# Altium schematic symbol library SpaceVNX.SCHLIB: 113 symbols (part 1 of 4)
Pins are listed as number, name and electrical type; pins without a type are passive.

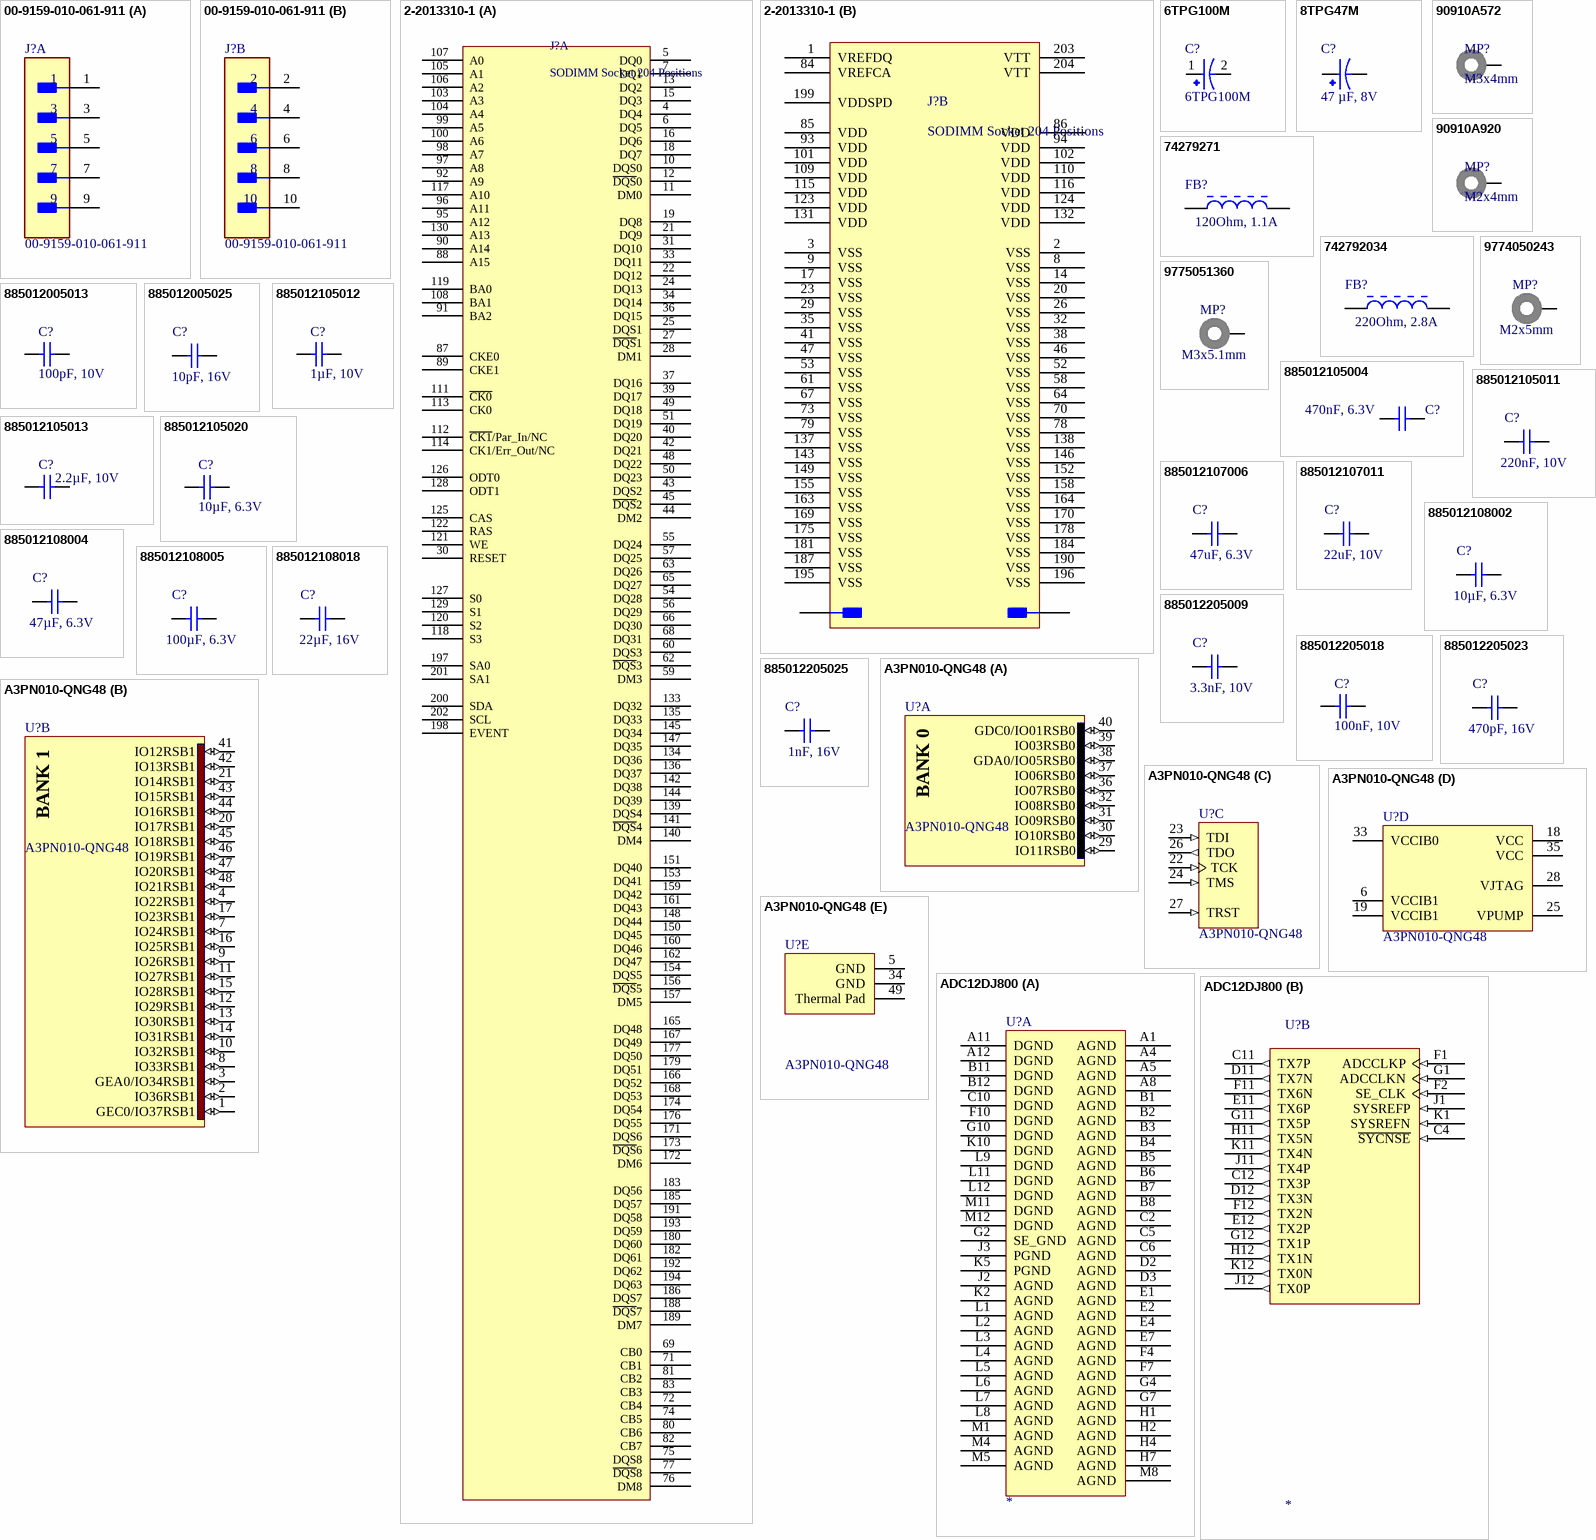
[diagram p0: symbols 00-9159-010-061-911 to ADC12DJ800]

## 00-9159-010-061-911
designator J?
Coplanar Open Ended Card Edge Connector 10 Pin; Supplier 1: Digi-Key; Supplier Part Number 1: 478-009159010061911-ND
footprint KYOCERA_00-9159-010-061-911 (Coplanar Open Ended Card Edge Connector)
part A pins: 1, 3, 5, 7, 9 (power)
part B pins: 2, 4, 6, 8, 10

## 2-2013310-1
designator J?, comment SODIMM Socket 204 Positions
Connector SODIMM Socket 204 Positions, Right Angle, DDR3/DDR3L +1.5V +1.35V; Memory Type: DDR3, DDR3L, SDRAM; Number of Positions: 204; JEDEC Standard: 204-Pin EP3-6400/EP3-8500/EP3-10600/EP3-12800 DDR3 SDRAM 72b-S0-DIMM Design Specification; Number of Rows: 2; Orientation: Right Angle; Packaging: Tape & Reel (TR); Termination: Solder; Radiation Hardening: No; Form Factor: SODIMM; ComponentLink1Description: Manufacturer; ComponentLink1URL: https://www.te.com/usa-en/product-2-2013310-1.html?te_bu=Cor&te_type=other&te_campaign=oct_glo_manufacturer&elqCampaignId=26136; ComponentLink2Description: Pinout; ComponentLink2URL: https://media-www.micron.com/-/media/client/global/documents/products/data-sheet/modules/sodimm/jtf16c256_512_1gx64hz.pdf?rev=92a9360308b84bd182ce55b117fec160; Supplier 1: RSComponents; Supplier 2: Mouser; Supplier 3: Digi-Key; Supplier Part Number 1: 9097429; Supplier Part Number 2: 571-2-2013310-1; Supplier Part Number 3: A111121CT-ND
footprint TE_DDR3_SODIMM_RA_Socket (Connector SODIMM Socket 204 POS 0.6mm Solder RA SMD Embossed)
part A pins: 4 DQ4, 5 DQ0, 6 DQ5, 7 DQ1, 10 DQS0, 11 DM0, 12 ~{DQS}0, 13 DQ2, 15 DQ3, 16 DQ6, 18 DQ7, 19 DQ8, 21 DQ9, 22 DQ12, 24 DQ13, 25 DQS1, 27 ~{DQS}1, 28 DM1, 30 RESET, 31 DQ10, 33 DQ11, 34 DQ14, 36 DQ15, 37 DQ16, 39 DQ17, 40 DQ20, 42 DQ21, 43 DQS2, 44 DM2, 45 ~{DQS}2, 48 DQ22, 49 DQ18, 50 DQ23, 51 DQ19, 54 DQ28, 55 DQ24, 56 DQ29, 57 DQ25, 59 DM3, 60 DQS3, 62 ~{DQS}3, 63 DQ26, 65 DQ27, 66 DQ30, 68 DQ31, 69 CB0, 71 CB1, 72 CB4, 74 CB5, 75 DQS8, 76 DM8, 77 ~{DQS}8, 80 CB6, 81 CB2, 82 CB7, 83 CB3, 87 CKE0, 88 A15, 89 CKE1, 90 A14, 91 BA2, 92 A9, 95 A12, 96 A11, 97 A8, 98 A7, 99 A5, 100 A6, 103 A3, 104 A4, 105 A1, 106 A2, 107 A0, 108 BA1, 111 ~{CK0}, 112 ~{CK1}/Par_In/NC, 113 CK0, 114 CK1/Err_Out/NC, 117 A10, 118 S3, 119 BA0, 120 S2, 121 WE, 122 RAS, 125 CAS, 126 ODT0, 127 S0, 128 ODT1, 129 S1, 130 A13, 133 DQ32, 134 DQ36, 135 DQ33, 136 DQ37, 139 DQS4, 140 DM4, 141 ~{DQS}4, 142 DQ38, 144 DQ39, 145 DQ34, 147 DQ35, 148 DQ44, 150 DQ45, 151 DQ40, 153 DQ41, 154 DQS5, 156 ~{DQS}5, 157 DM5, 159 DQ42, 160 DQ46, 161 DQ43, 162 DQ47, 165 DQ48, 166 DQ52, 167 DQ49, 168 DQ53, 171 DQS6, 172 DM6, 173 ~{DQS}6, 174 DQ54, 176 DQ55, 177 DQ50, 179 DQ51, 180 DQ60, 182 DQ61, 183 DQ56, 185 DQ57, 186 DQS7, 188 ~{DQS}7, 189 DM7, 191 DQ58, 192 DQ62, 193 DQ59, 194 DQ63, 197 SA0, 198 EVENT, 200 SDA, 201 SA1, 202 SCL
part B pins: 1 VREFDQ, 2 VSS, 3 VSS, 8 VSS, 9 VSS, 14 VSS, 17 VSS, 20 VSS, 23 VSS, 26 VSS, 29 VSS, 32 VSS, 35 VSS, 38 VSS, 41 VSS, 46 VSS, 47 VSS, 52 VSS, 53 VSS, 58 VSS, 61 VSS, 64 VSS, 67 VSS, 70 VSS, 73 VSS, 78 VSS, 79 VSS, 84 VREFCA, 85 VDD, 86 VDD, 93 VDD, 94 VDD, 101 VDD, 102 VDD, 109 VDD, 110 VDD, 115 VDD, 116 VDD, 123 VDD, 124 VDD, 131 VDD, 132 VDD, 137 VSS, 138 VSS, 143 VSS, 146 VSS, 149 VSS, 152 VSS, 155 VSS, 158 VSS, 163 VSS, 164 VSS, 169 VSS, 170 VSS, 175 VSS, 178 VSS, 181 VSS, 184 VSS, 187 VSS, 190 VSS, 195 VSS, 196 VSS, 199 VDDSPD, 203 VTT, 204 VTT, 205 GND, 206 GND

## 6TPG100M
designator C?
Conductive Polymer Tantalum Solid Capacitors; MF: Panasonic; Rated capacitance range (µF): 100.00; Rated voltage (DC) (V): 6.30; Package: B1G; MP: 6TPG100M; Supplier 1: Digi-Key; Supplier Part Number 1: P16238CT-ND
footprint PANASONIC_B1G
pins: 1, 2

## 8TPG47M
designator C?, comment 47 µF, 8V
Conductive Polymer Tantalum Solid Capacitors; MP: 8TPG47M; Rated capacitance range (µF): 47.00; Rated voltage (DC) (V): 8.00; MF: Panasonic; Package: B1G; Supplier 1: Digi-Key; Supplier Part Number 1: P123517DKR-ND
footprint PANASONIC_B1G
pins: 1, 2

## 90910A572
designator MP?, comment M3x4mm
Button Head Torx Screws 18-8 Stainless Steel, M3 x 0.5 mm Thread, 4 mm Long; ComponentLink1Description: Manufacturer; ComponentLink1URL: https://www.mcmaster.com/90910A572/
footprint 90910A572 (Button Head Torx Screws 18-8 Stainless Steel, M3 x 0.5 mm Thread, 4 mm Long)
pins: 1

## 90910A920
designator MP?, comment M2x4mm
Button Head Torx Screws 18-8 Stainless Steel, M2 x 0.4mm Thread, 4mm Long; ComponentLink1Description: Manufacturer; ComponentLink1URL: https://www.mcmaster.com/90910A920/
footprint 90910A572 (Button Head Torx Screws 18-8 Stainless Steel, M3 x 0.5 mm Thread, 4 mm Long)
pins: 1

## 74279271
designator FB?, comment 120Ohm, 1.1A
WE-CBF SMT EMI Suppression Ferrite Bead, size 0402, 120Ohm, 1.1A; Manufacturer Part Number: 74279271; Manufacturer: Wurth Elektronik; Impedance max.: 200Ohm; DC Resistance max.: 0.2Ohm; Type: Wide Band; ComponentLink1Description: Manufacturer; ComponentLink1URL: http://www.we-online.de; ComponentLink2Description: Datasheet; ComponentLink2URL: https://www.we-online.com/catalog/datasheet/74279271.pdf; Operating Temperature: -55 to +125degC; Packaging: Tape and Reel; Published Date: December 2021; Rated Current: 1.1A; Impedance @100MHz: 120Ohm; Mounting Technology: SMT; Size: 0402; Height: 0.5mm; Length: 1mm; Width: 0.5mm
footprint WURTH-CBF_0402 (SMD EMI Suppression Ferrite  Bead, body 1x0.5mm)
pins: 1, 2

## 742792034
designator FB?, comment 220Ohm, 2.8A
WE-CBF SMT EMI Suppression Ferrite Bead, size 0805, 220Ohm, 2.8A; Manufacturer Part Number: 742792034; Manufacturer: Wurth Elektronik; Impedance max.: 300Ohm; DC Resistance max.: 0.3Ohm; Type: High Speed; ComponentLink1Description: Manufacturer; ComponentLink1URL: http://www.we-online.de; ComponentLink2Description: Datasheet; ComponentLink2URL: https://www.we-online.com/catalog/datasheet/742792034.pdf; Operating Temperature: -55 to +125degC; Packaging: Tape and Reel; Published Date: December 2021; Rated Current: 2.8A; Impedance @100MHz: 220Ohm; Mounting Technology: SMT; Size: 0805; Height: 0.9mm; Length: 2mm; Width: 1.2mm
footprint WURTH-CBF_0805 (SMD EMI Suppression Ferrite  Bead, body 2x1.2mm)
pins: 1, 2

## 9774050243
designator MP?, comment M2x5mm
WA-SMSI SMT Steel Spacer, internal Thread, OD 4.35mm, M2x5mm; Manufacturer Part Number: 9774050243; Manufacturer: Wurth Elektronik; Inner Diameter: 2.8mm; Surface: Tin; Thread: M2; ComponentLink1Description: Manufacturer; ComponentLink1URL: http://www.we-online.de; ComponentLink2Description: Datasheet; ComponentLink2URL: https://www.we-online.com/catalog/datasheet/9774050243.pdf; Mounting Technology: SMT; Packaging: Bulk; Length: 5mm; Inner Thread Length: -; Operating Temperature: -55 to +150degC; Outer Diameter: 4.35mm; Published Date: April 2020; Material: Steel
footprint 9774050243 (SMT Steel Spacer with internal Thread M2, height 5mm)
pins: 1

## 9775051360
designator MP?, comment M3x5.1mm
WA-SMSR SMT Steel Spacer Reverse with internal Thread M3, Length 5.1mm; Manufacturer Part Number: 9775051360; Manufacturer: Wurth Elektronik; Inner Diameter: 4.2mm; Outer Diameter: 6mm; Surface: Tin; ComponentLink1Description: Manufacturer; ComponentLink1URL: http://www.we-online.de; ComponentLink2Description: Datasheet; ComponentLink2URL: https://www.we-online.com/catalog/datasheet/9775051360.pdf; Operating Temperature: -55 to +150degC; Pin Length: 5.1mm; Hole Diameter: -; Material: Steel; Packaging: Bulk; Published Date: March 2021; Mounting Technology: SMT; Thread: M3
footprint 9775051360 (SMD Steel Spacer M3 Thread Internal, Pin Length 5.1mm)
pins: 1

## 885012005013
designator C?, comment 100pF, 10V
WCAP-CSGP Multilayer Ceramic Chip Capacitor, General Purpose, size 0402, NP0, 100pF, 10V; Manufacturer Part Number: 885012005013; Manufacturer: Wurth Elektronik; Rated Voltage: 10VDC; Isolation Resistance  min.: 10GOhm; Capacitance Tolerance: +/-5%; Technical Reference: NP00402101J010DFCT10000; Q-Factor min.: 1000; ComponentLink1Description: Manufacturer; ComponentLink1URL: http://www.we-online.de; ComponentLink2Description: Datasheet; ComponentLink2URL: https://www.we-online.com/catalog/datasheet/885012005013.pdf; Operating Temperature: -55 to +125degC; Packaging: Tape and Reel; Published Date: April 2021; Ceramic Type: NP0; Dissipation Factor max.: -; Height: 0.5mm; Mounting Technology: SMT; Size: 0402; Capacitance: 100pF
footprint WURTH_WCAP-CSGP_0402 (Ceramic Capacitors, body 1x0.5mm)
pins: 1, 2

## 885012005025
designator C?, comment 10pF, 16V
WCAP-CSGP Multilayer Ceramic Chip Capacitor, General Purpose, size 0402, NP0, 10pF, 16V; Manufacturer Part Number: 885012005025; Manufacturer: Wurth Elektronik; Rated Voltage: 16VDC; Isolation Resistance  min.: 10GOhm; Capacitance Tolerance: +/-5%; Technical Reference: NP00402100J016DFCT10000; Q-Factor min.: 400+20C; ComponentLink1Description: Manufacturer; ComponentLink1URL: http://www.we-online.de; ComponentLink2Description: Datasheet; ComponentLink2URL: https://www.we-online.com/catalog/datasheet/885012005025.pdf; Operating Temperature: -55 to +125degC; Packaging: Tape and Reel; Published Date: April 2021; Ceramic Type: NP0; Dissipation Factor max.: -; Height: 0.5mm; Mounting Technology: SMT; Size: 0402; Capacitance: 10pF
footprint WURTH_WCAP-CSGP_0402 (Ceramic Capacitors, body 1x0.5mm)
pins: 1, 2

## 885012105004
designator C?, comment 470nF, 6.3V
WCAP-CSGP Multilayer Ceramic Chip Capacitor, General Purpose, size 0402, X5R, 470nF, 6.3V; Manufacturer Part Number: 885012105004; Manufacturer: Wurth Elektronik; Rated Voltage: 6.3VDC; Isolation Resistance  min.: 0.2GOhm; Capacitance Tolerance: +/-20%; Dissipation Factor max.: 10%; Technical Reference: X5R0402474M6R3DFCT10000; ComponentLink1Description: Manufacturer; ComponentLink1URL: http://www.we-online.de; ComponentLink2Description: Datasheet; ComponentLink2URL: https://www.we-online.com/catalog/datasheet/885012105004.pdf; Operating Temperature: -55 to +85degC; Packaging: Tape and Reel; Published Date: April 2021; Ceramic Type: X5R; Height: 0.5mm; Mounting Technology: SMT; Size: 0402; Capacitance: 470nF; Supplier 1: Digi-Key; Supplier 2: Mouser; Supplier Part Number 1: 732-7481-1-ND; Supplier Part Number 2: 710-885012105004
footprint WURTH_WCAP-CSGP_0402 (Ceramic Capacitors, body 1x0.5mm)
pins: 1, 2

## 885012105011
designator C?, comment 220nF, 10V
WCAP-CSGP Multilayer Ceramic Chip Capacitor, General Purpose, size 0402, X5R, 220nF, 10V; Manufacturer Part Number: 885012105011; Manufacturer: Wurth Elektronik; Rated Voltage: 10VDC; Isolation Resistance  min.: 2.3GOhm; Capacitance Tolerance: +/-20%; Dissipation Factor max.: 5%; Technical Reference: X5R0402224M010DFCT10000; ComponentLink1Description: Manufacturer; ComponentLink1URL: http://www.we-online.de; ComponentLink2Description: Datasheet; ComponentLink2URL: https://www.we-online.com/catalog/datasheet/885012105011.pdf; Operating Temperature: -55 to +85degC; Packaging: Tape and Reel; Published Date: April 2021; Ceramic Type: X5R; Height: 0.5mm; Mounting Technology: SMT; Size: 0402; Capacitance: 220nF; Q-Factor min.: -
footprint WURTH_WCAP-CSGP_0402 (Ceramic Capacitors, body 1x0.5mm)
pins: 1, 2

## 885012105012
designator C?, comment 1µF, 10V
WCAP-CSGP Multilayer Ceramic Chip Capacitor, General Purpose, size 0402, X5R, 1uF, 10V; Manufacturer Part Number: 885012105012; Manufacturer: Wurth Elektronik; Rated Voltage: 10VDC; Isolation Resistance  min.: 0.05GOhm; Capacitance Tolerance: +/-20%; Dissipation Factor max.: 15%; Technical Reference: X5R0402105M010DFCT10000; ComponentLink1Description: Manufacturer; ComponentLink1URL: http://www.we-online.de; ComponentLink2Description: Datasheet; ComponentLink2URL: https://www.we-online.com/catalog/datasheet/885012105012.pdf; Operating Temperature: -55 to +85degC; Packaging: Tape and Reel; Published Date: April 2021; Ceramic Type: X5R; Height: 0.5mm; Mounting Technology: SMT; Size: 0402; Capacitance: 1uF; Q-Factor min.: -; Supplier 1: Digi-Key; Supplier 2: Mouser; Supplier Part Number 2: 710-885012105012; Supplier Part Number 1: 732-7489-1-ND
footprint WURTH_WCAP-CSGP_0402 (Ceramic Capacitors, body 1x0.5mm)
pins: 1, 2

## 885012105013
designator C?, comment 2.2µF, 10V
WCAP-CSGP Multilayer Ceramic Chip Capacitor, General Purpose, size 0402, X5R, 2.2uF, 10V; Manufacturer Part Number: 885012105013; Manufacturer: Wurth Elektronik; Rated Voltage: 10VDC; Isolation Resistance  min.: 0.05GOhm; Capacitance Tolerance: +/-20%; Dissipation Factor max.: 10%; Technical Reference: X5R0402225M010DFCT10000; ComponentLink1Description: Manufacturer; ComponentLink1URL: http://www.we-online.de; ComponentLink2Description: Datasheet; ComponentLink2URL: https://www.we-online.com/catalog/datasheet/885012105013.pdf; Operating Temperature: -55 to +85degC; Packaging: Tape and Reel; Published Date: April 2021; Ceramic Type: X5R; Height: 0.5mm; Mounting Technology: SMT; Size: 0402; Capacitance: 2.2uF; Q-Factor min.: -
footprint WURTH_WCAP-CSGP_0402 (Ceramic Capacitors, body 1x0.5mm)
pins: 1, 2

## 885012105020
designator C?, comment 10µF, 6.3V
WCAP-CSGP Multilayer Ceramic Chip Capacitor, General Purpose, size 0402, X5R, 10uF, 6.3V; Manufacturer Part Number: 885012105020; Manufacturer: Wurth Elektronik; Rated Voltage: 6.3VDC; Isolation Resistance  min.: 0.01GOhm; Capacitance Tolerance: +/20%; Dissipation Factor max.: 10%; Technical Reference: X5R0402106M6R3DFCT10000; ComponentLink1Description: Manufacturer; ComponentLink1URL: http://www.we-online.de; ComponentLink2Description: Datasheet; ComponentLink2URL: https://www.we-online.com/catalog/datasheet/885012105020.pdf; Operating Temperature: -55 to +85degC; Packaging: Tape and Reel; Published Date: April 2021; Ceramic Type: X5R; Height: 0.5mm; Mounting Technology: SMT; Size: 0402; Capacitance: 10uF; Q-Factor min.: -
footprint WURTH_WCAP-CSGP_0402 (Ceramic Capacitors, body 1x0.5mm)
pins: 1, 2

## 885012107006
designator C?, comment 47uF, 6.3V
WCAP-CSGP Multilayer Ceramic Chip Capacitor, General Purpose, size 0805, X5R, 47uF, 6.3V; Manufacturer Part Number: 885012107006; Manufacturer: Wurth Elektronik; Rated Voltage: 6.3VDC; Isolation Resistance  min.: 0.002GOhm; Capacitance Tolerance: +/-20%; Dissipation Factor max.: 10%; Technical Reference: X5R0805476M6R3DFCT10000; ComponentLink1Description: Manufacturer; ComponentLink1URL: http://www.we-online.de; ComponentLink2Description: Datasheet; ComponentLink2URL: https://www.we-online.com/catalog/datasheet/885012107006.pdf; Operating Temperature: -55 to +85degC; Packaging: Tape and Reel; Published Date: April 2021; Ceramic Type: X5R; Height: 1.25mm; Mounting Technology: SMT; Size: 0805; Capacitance: 47uF; Q-Factor min.: -
footprint WURTH_WCAP-CSGP_0805_H=1.25mm (Ceramic Capacitors, body 2x1.25mm)
pins: 1, 2

## 885012107011
designator C?, comment 22uF, 10V
WCAP-CSGP Multilayer Ceramic Chip Capacitor, General Purpose, size 0805, X5R, 22uF, 10V; Manufacturer Part Number: 885012107011; Manufacturer: Wurth Elektronik; Rated Voltage: 10VDC; Isolation Resistance  min.: 0.005GOhm; Capacitance Tolerance: +/-20%; Dissipation Factor max.: 10%; Technical Reference: X5R0805226M010DFCT10000; ComponentLink1Description: Manufacturer; ComponentLink1URL: http://www.we-online.de; ComponentLink2Description: Datasheet; ComponentLink2URL: https://www.we-online.com/catalog/datasheet/885012107011.pdf; Operating Temperature: -55 to +85degC; Packaging: Tape and Reel; Published Date: April 2021; Ceramic Type: X5R; Height: 1.25mm; Mounting Technology: SMT; Size: 0805; Capacitance: 22uF; Q-Factor min.: -
footprint WURTH_WCAP-CSGP_0805_H=1.25mm (Ceramic Capacitors, body 2x1.25mm)
pins: 1, 2

## 885012108002
designator C?, comment 10µF, 6.3V
WCAP-CSGP Multilayer Ceramic Chip Capacitor, General Purpose, size 1206, X5R, 10uF, 6.3V; Manufacturer Part Number: 885012108002; Manufacturer: Wurth Elektronik; Rated Voltage: 6.3VDC; Isolation Resistance  min.: 0.005GOhm; Capacitance Tolerance: +/-20%; Dissipation Factor max.: 10%; Technical Reference: X5R1206106M6R3DFCT10000; ComponentLink1Description: Manufacturer; ComponentLink1URL: http://www.we-online.de; ComponentLink2Description: Datasheet; ComponentLink2URL: https://www.we-online.com/catalog/datasheet/885012108002.pdf; Operating Temperature: -55 to +85degC; Packaging: Tape and Reel; Published Date: April 2021; Ceramic Type: X5R; Height: 1.6mm; Mounting Technology: SMT; Size: 1206; Capacitance: 10uF; Q-Factor min.: -
footprint WURTH_WCAP-CSGP_1206_H=1.6mm (Ceramic Capacitors, body 3.2x1.6mm)
pins: 1, 2

## 885012108004
designator C?, comment 47µF, 6.3V
WCAP-CSGP Multilayer Ceramic Chip Capacitor, General Purpose, size 1206, X5R, 47uF, 6.3V; Manufacturer Part Number: 885012108004; Manufacturer: Wurth Elektronik; Rated Voltage: 6.3VDC; Isolation Resistance  min.: 0.002GOhm; Capacitance Tolerance: +/-20%; Dissipation Factor max.: 10%; Technical Reference: X5R1206476M6R3DFCT10000; ComponentLink1Description: Manufacturer; ComponentLink1URL: http://www.we-online.de; ComponentLink2Description: Datasheet; ComponentLink2URL: https://www.we-online.com/catalog/datasheet/885012108004.pdf; Operating Temperature: -55 to +85degC; Packaging: Tape and Reel; Published Date: April 2021; Ceramic Type: X5R; Height: 1.6mm; Mounting Technology: SMT; Size: 1206; Capacitance: 47uF; Q-Factor min.: -
footprint WURTH_WCAP-CSGP_1206_H=1.6mm (Ceramic Capacitors, body 3.2x1.6mm)
pins: 1, 2

## 885012108005
designator C?, comment 100µF, 6.3V
WCAP-CSGP Multilayer Ceramic Chip Capacitor, General Purpose, size 1206, X5R, 100uF, 6.3V; Manufacturer Part Number: 885012108005; Manufacturer: Wurth Elektronik; Rated Voltage: 6.3VDC; Isolation Resistance  min.: 0.001GOhm; Capacitance Tolerance: +/-20%; Dissipation Factor max.: 10%; Technical Reference: X5R1206107M6R3DFCT10000; ComponentLink1Description: Manufacturer; ComponentLink1URL: http://www.we-online.de; ComponentLink2Description: Datasheet; ComponentLink2URL: https://www.we-online.com/catalog/datasheet/885012108005.pdf; Operating Temperature: -55 to +85degC; Packaging: Tape and Reel; Published Date: April 2021; Ceramic Type: X5R; Height: 1.6mm; Mounting Technology: SMT; Size: 1206; Capacitance: 100uF; Q-Factor min.: -
footprint WURTH_WCAP-CSGP_1206_H=1.6mm (Ceramic Capacitors, body 3.2x1.6mm)
pins: 1, 2

## 885012108018
designator C?, comment 22µF, 16V
WCAP-CSGP Multilayer Ceramic Chip Capacitor, General Purpose, size 1206, X5R, 22uF, 16V; Manufacturer Part Number: 885012108018; Manufacturer: Wurth Elektronik; Rated Voltage: 16VDC; Isolation Resistance  min.: 0.005GOhm; Capacitance Tolerance: +/-20%; Dissipation Factor max.: 10%; Technical Reference: X5R1206226M016DFCT10000; ComponentLink1Description: Manufacturer; ComponentLink1URL: http://www.we-online.de; ComponentLink2Description: Datasheet; ComponentLink2URL: https://www.we-online.com/catalog/datasheet/885012108018.pdf; Operating Temperature: -55 to +85degC; Packaging: Tape and Reel; Published Date: April 2021; Ceramic Type: X5R; Height: 1.6mm; Mounting Technology: SMT; Size: 1206; Capacitance: 22uF; Q-Factor min.: -
footprint WURTH_WCAP-CSGP_1206_H=1.6mm (Ceramic Capacitors, body 3.2x1.6mm)
pins: 1, 2

## 885012205009
designator C?, comment 3.3nF, 10V
WCAP-CSGP Multilayer Ceramic Chip Capacitor, General Purpose, size 0402, X7R, 3.3nF, 10V; Manufacturer Part Number: 885012205009; Manufacturer: Wurth Elektronik; Rated Voltage: 10VDC; Isolation Resistance  min.: 10GOhm; Capacitance Tolerance: +/-10%; Dissipation Factor max.: 5%; Technical Reference: X7R0402332K010DFCT10000; ComponentLink1Description: Manufacturer; ComponentLink1URL: http://www.we-online.de; ComponentLink2Description: Datasheet; ComponentLink2URL: https://www.we-online.com/catalog/datasheet/885012205009.pdf; Operating Temperature: -55 to +125degC; Packaging: Tape and Reel; Published Date: April 2021; Ceramic Type: X7R; Height: 0.5mm; Mounting Technology: SMT; Size: 0402; Capacitance: 3.3nF; Q-Factor min.: -
footprint WURTH_WCAP-CSGP_0402 (Ceramic Capacitors, body 1x0.5mm)
pins: 1, 2

## 885012205018
designator C?, comment 100nF, 10V
WCAP-CSGP Multilayer Ceramic Chip Capacitor, General Purpose, size 0402, X7R, 100nF, 10V; Manufacturer Part Number: 885012205018; Manufacturer: Wurth Elektronik; Rated Voltage: 10VDC; Isolation Resistance  min.: 5GOhm; Capacitance Tolerance: +/-10%; Dissipation Factor max.: 5%; Technical Reference: X7R0402104K010DFCT10000; ComponentLink1Description: Manufacturer; ComponentLink1URL: http://www.we-online.de; ComponentLink2Description: Datasheet; ComponentLink2URL: https://www.we-online.com/catalog/datasheet/885012205018.pdf; Operating Temperature: -55 to +125degC; Packaging: Tape and Reel; Published Date: April 2021; Ceramic Type: X7R; Height: 0.5mm; Mounting Technology: SMT; Size: 0402; Capacitance: 100nF; Q-Factor min.: -
footprint WURTH_WCAP-CSGP_0402 (Ceramic Capacitors, body 1x0.5mm)
pins: 1, 2

## 885012205023
designator C?, comment 470pF, 16V
WCAP-CSGP Multilayer Ceramic Chip Capacitor, General Purpose, size 0402, X7R, 470pF, 16V; Manufacturer Part Number: 885012205023; Manufacturer: Wurth Elektronik; Rated Voltage: 16VDC; Isolation Resistance  min.: 10GOhm; Capacitance Tolerance: +/-10%; Dissipation Factor max.: 3.5%; Technical Reference: X7R0402471K016DFCT10000; ComponentLink1Description: Manufacturer; ComponentLink1URL: http://www.we-online.de; ComponentLink2Description: Datasheet; ComponentLink2URL: https://www.we-online.com/catalog/datasheet/885012205023.pdf; Operating Temperature: -55 to +125degC; Packaging: Tape and Reel; Published Date: April 2021; Ceramic Type: X7R; Height: 0.5mm; Mounting Technology: SMT; Size: 0402; Capacitance: 470pF; Q-Factor min.: -
footprint WURTH_WCAP-CSGP_0402 (Ceramic Capacitors, body 1x0.5mm)
pins: 1, 2

## 885012205025
designator C?, comment 1nF, 16V
WCAP-CSGP Multilayer Ceramic Chip Capacitor, General Purpose, size 0402, X7R, 1nF, 16V; Manufacturer Part Number: 885012205025; Manufacturer: Wurth Elektronik; Rated Voltage: 16VDC; Isolation Resistance  min.: 10GOhm; Capacitance Tolerance: +/-10%; Dissipation Factor max.: 3.5%; Technical Reference: X7R0402102K016DFCT10000; ComponentLink1Description: Manufacturer; ComponentLink1URL: http://www.we-online.de; ComponentLink2Description: Datasheet; ComponentLink2URL: https://www.we-online.com/catalog/datasheet/885012205025.pdf; Operating Temperature: -55 to +125degC; Packaging: Tape and Reel; Published Date: April 2021; Ceramic Type: X7R; Height: 0.5mm; Mounting Technology: SMT; Size: 0402; Capacitance: 1nF; Q-Factor min.: -
footprint WURTH_WCAP-CSGP_0402 (Ceramic Capacitors, body 1x0.5mm)
pins: 1, 2

## A3PN010-QNG48
designator U?
ProASIC3 nano Flash FPGA, 34 User IOs, 10K System Gates, Standard Speed, 48-Pin QFP, Pb-Free, Commerical Grade; System Gates: 100.000; Equivalent LEs: 100; FlashROM Bits: 1024; Maximum User I/Os: 34; ComponentLink1Description: Manufacturer; ComponentLink1URL: https://www.microsemi.com/product-directory/fpgas/1690-proasic3#proasic3-nano; Supplier 1: Digi-Key; Supplier Part Number 1: 1100-1258-ND; Package: QNG48
footprint Actel_QN48 (QFN, 48-Leads, Body 6x6mm, Pitch 0.4mm, Thermal Pad 4.8x4.8mm, IPC Medium Density)
part A pins: 29 IO11RSB0 (io), 30 IO10RSB0 (io), 31 IO09RSB0 (io), 32 IO08RSB0 (io), 36 IO07RSB0 (io), 37 IO06RSB0 (io), 38 GDA0/IO05RSB0 (io), 39 IO03RSB0 (io), 40 GDC0/IO01RSB0 (io)
part B pins: 1 GEC0/IO37RSB1 (io), 2 IO36RSB1 (io), 3 GEA0/IO34RSB1 (io), 4 IO22RSB1 (io), 7 IO24RSB1 (io), 8 IO33RSB1 (io), 9 IO26RSB1 (io), 10 IO32RSB1 (io), 11 IO27RSB1 (io), 12 IO29RSB1 (io), 13 IO30RSB1 (io), 14 IO31RSB1 (io), 15 IO28RSB1 (io), 16 IO25RSB1 (io), 17 IO23RSB1 (io), 20 IO17RSB1 (io), 21 IO14RSB1 (io), 41 IO12RSB1 (io), 42 IO13RSB1 (io), 43 IO15RSB1 (io), 44 IO16RSB1 (io), 45 IO18RSB1 (io), 46 IO19RSB1 (io), 47 IO20RSB1 (io), 48 IO21RSB1 (io)
part C pins: 22 TCK (in), 23 TDI (in), 24 TMS (in), 26 TDO (out), 27 TRST (in)
part D pins: 6 VCCIB1 (power), 18 VCC (power), 19 VCCIB1 (power), 25 VPUMP (power), 28 VJTAG (power), 33 VCCIB0 (power), 35 VCC (power)
part E pins: 5 GND (power), 34 GND (power), 49 Thermal Pad (power)
part A text: BANK 0
part B text: BANK 1

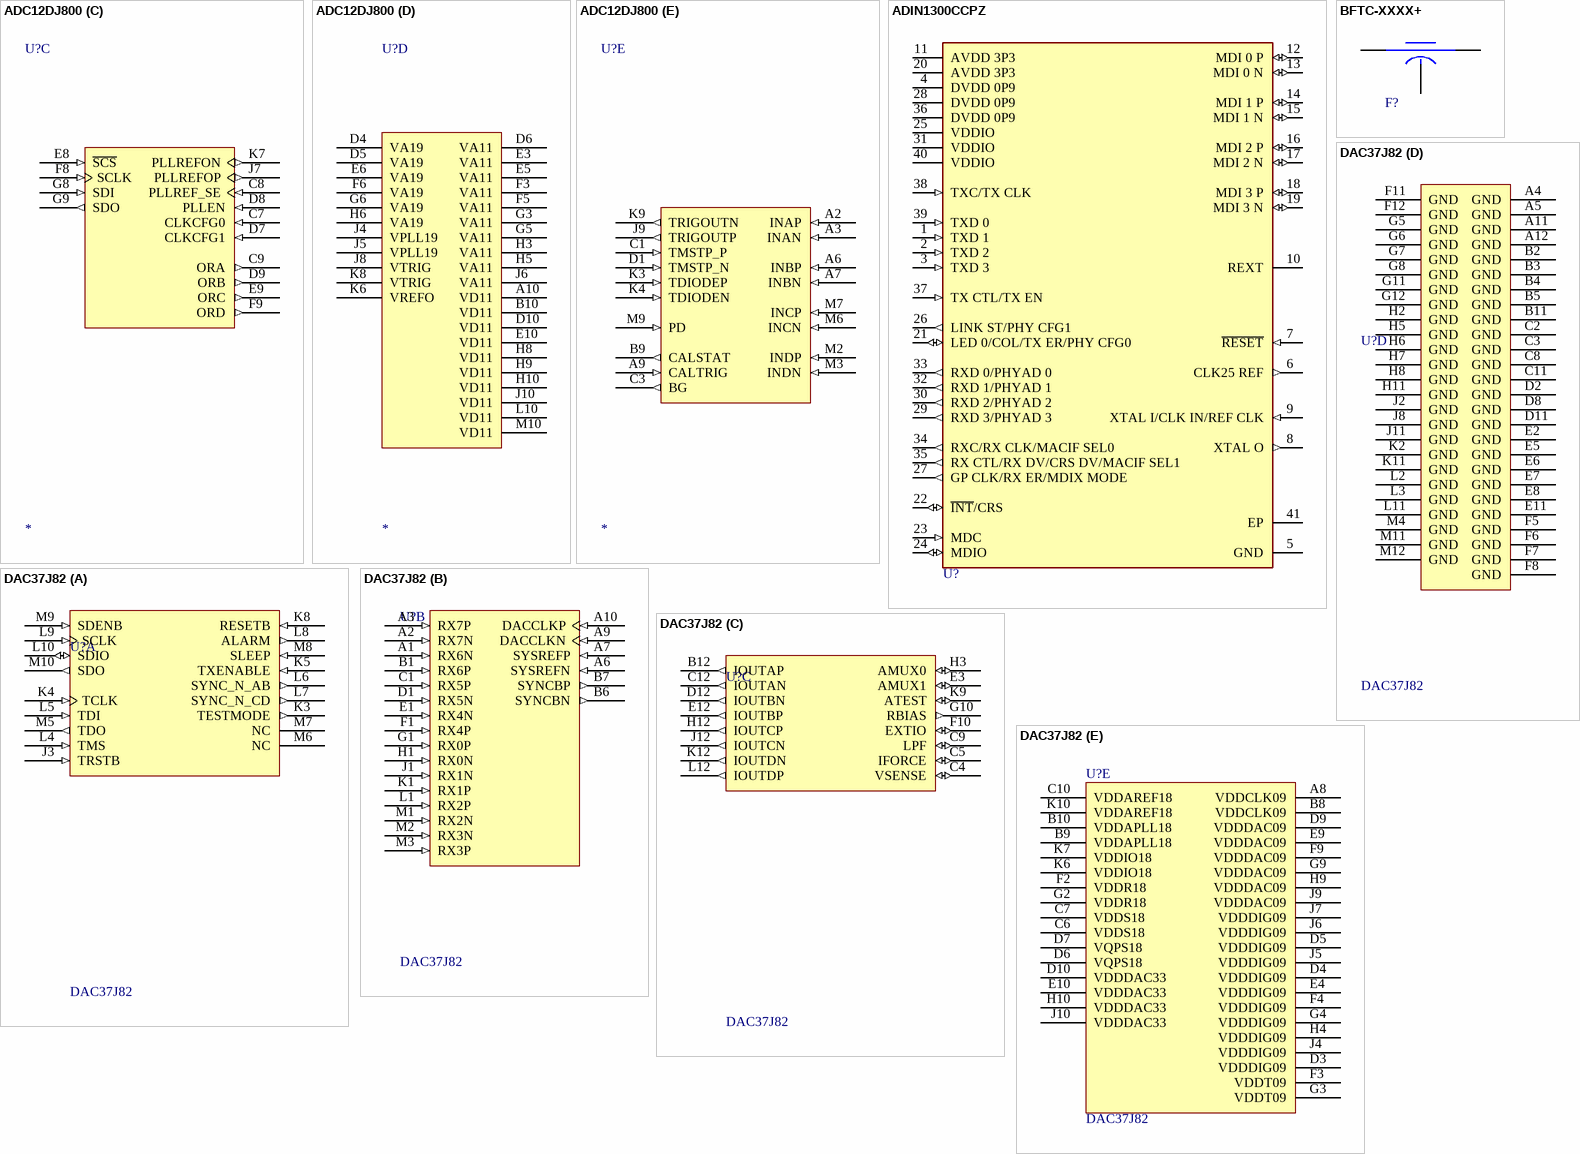
[diagram p1: symbols ADC12DJ800 to DAC37J82]

## ADC12DJ800
designator U?
Dual-Channel, 12-bit, 800-MSPS Analog-to-Digital Converter with JESD204C interface.; Resolution (Bits): 12; Number of ADC channels (#): 2; Sample rate (Max) (MSPS): 800; Rating: Automotive; Interface type: JESD204B, JESD204C; Analog input BW (MHz): 6000; Architecture: Folding Interpolating; SNR (dB): 57.6; Power consumption (Typ) (mW): 1110; Operating temperature range (ºC): -40ºC to 125ºC; ComponentLink1Description: Manufacturer; ComponentLink1URL: https://www.ti.com/product/ADC12DJ800-Q1; Supplier 1: Mouser; Supplier 2: Digi-Key; Supplier Part Number 1: 595-ADC12DJ2700AAV; Supplier Part Number 2: 296-48320-ND
footprint TEXAS_FCBGA144 (AAV)
part A pins: A1 AGND, A4 AGND, A5 AGND, A8 AGND, A11 DGND, A12 DGND, B1 AGND, B2 AGND, B3 AGND, B4 AGND, B5 AGND, B6 AGND, B7 AGND, B8 AGND, B11 DGND, B12 DGND, C2 AGND, C5 AGND, C6 AGND, C10 DGND, D2 AGND, D3 AGND, E1 AGND, E2 AGND, E4 AGND, E7 AGND, F4 AGND, F7 AGND, F10 DGND, G2 SE_GND, G4 AGND, G7 AGND, G10 DGND, H1 AGND, H2 AGND, H4 AGND, H7 AGND, J2 AGND, J3 PGND, K2 AGND, K5 PGND, K10 DGND, L1 AGND, L2 AGND, L3 AGND, L4 AGND, L5 AGND, L6 AGND, L7 AGND, L8 AGND, L9 DGND, L11 DGND, L12 DGND, M1 AGND, M4 AGND, M5 AGND, M8 AGND, M11 DGND, M12 DGND
part B pins: C4 ~{SYCNSE} (in), C11 TX7P (out), C12 TX3P (out), D11 TX7N (out), D12 TX3N (out), E11 TX6P (out), E12 TX2P (out), F1 ADCCLKP (in), F2 SE_CLK (in), F11 TX6N (out), F12 TX2N (out), G1 ADCCLKN (in), G11 TX5P (out), G12 TX1P (out), H11 TX5N (out), H12 TX1N (out), J1 SYSREFP (in), J11 TX4P (out), J12 TX0P (out), K1 SYSREFN (in), K11 TX4N (out), K12 TX0N (out)
part C pins: C7 CLKCFG0 (in), C8 PLLREF_SE (in), C9 ORA (out), D7 CLKCFG1 (in), D8 PLLEN (in), D9 ORB (out), E8 ~{SCS} (in), E9 ORC (out), F8 SCLK (in), F9 ORD (out), G8 SDI (in), G9 SDO (out), J7 PLLREFOP (out), K7 PLLREFON (out)
part D pins: A10 VD11, B10 VD11, D4 VA19, D5 VA19, D6 VA11, D10 VD11, E3 VA11, E5 VA11, E6 VA19, E10 VD11, F3 VA11, F5 VA11, F6 VA19, G3 VA11, G5 VA11, G6 VA19, H3 VA11, H5 VA11, H6 VA19, H8 VD11, H9 VD11, H10 VD11, J4 VPLL19, J5 VPLL19, J6 VA11, J8 VTRIG, J10 VD11, K6 VREFO, K8 VTRIG, L10 VD11, M10 VD11
part E pins: A2 INAP (in), A3 INAN (in), A6 INBP (in), A7 INBN (in), A9 CALTRIG (in), B9 CALSTAT (out), C1 TMSTP_P (in), C3 BG (out), D1 TMSTP_N (in), J9 TRIGOUTP (out), K3 TDIODEP (in), K4 TDIODEN (in), K9 TRIGOUTN (out), M2 INDP (in), M3 INDN (in), M6 INCN (in), M7 INCP (in), M9 PD (in)

## ADIN1300CCPZ
designator U?  (value not drawn)
Robust, Industrial, Low Latency and Low Power 10 Mbps, 100 Mbps, and 1 Gbps Ethernet PHY; MAC Interface: MII, RMII, RGMII; Package: 40-lead, 6 mm × 6 mm LFCSP; Operating Temperature: −40°C to +105°C; ComponentLink1Description: Manufacturer; ComponentLink1URL: https://www.analog.com/en/products/adin1300.html#product-tools; ComponentLink2Description: Application Note; ComponentLink2URL: https://wiki.analog.com/resources/eval/user-guides/adin1300-and-adin1200/cap-coupling#:~:text=The%20ADIN1300%20and%20ADIN1200%20are,10%2F100%20Mbps%20Ethernet%20speeds.; Supplier 1: Digi-Key; Supplier 2: Mouser; Supplier Part Number 2: 584-ADIN1300CCPZ; Supplier Part Number 1: 505-ADIN1300CCPZ-ND
footprint ADI_LFCSP40 (CP-40-26, 6X6mm Body)
pins: 1 TXD 1 (in), 2 TXD 2 (in), 3 TXD 3 (in), 4 DVDD 0P9 (power), 5 GND (power), 6 CLK25 REF (out), 7 ~{RESET} (in), 8 XTAL O (out), 9 XTAL I/CLK IN/REF CLK (in), 10 REXT, 11 AVDD 3P3 (power), 12 MDI 0 P (io), 13 MDI 0 N (io), 14 MDI 1 P (io), 15 MDI 1 N (io), 16 MDI 2 P (io), 17 MDI 2 N (io), 18 MDI 3 P (io), 19 MDI 3 N (io), 20 AVDD 3P3 (power), 21 LED 0/COL/TX ER/PHY CFG0 (io), 22 ~{INT}/CRS (io), 23 MDC (in), 24 MDIO (io), 25 VDDIO (power), 26 LINK ST/PHY CFG1 (out), 27 GP CLK/RX ER/MDIX MODE (out), 28 DVDD 0P9 (power), 29 RXD 3/PHYAD 3 (out), 30 RXD 2/PHYAD 2 (out), 31 VDDIO (power), 32 RXD 1/PHYAD 1 (out), 33 RXD 0/PHYAD 0 (out), 34 RXC/RX CLK/MACIF SEL0 (out), 35 RX CTL/RX DV/CRS DV/MACIF SEL1 (out), 36 DVDD 0P9 (power), 37 TX CTL/TX EN (in), 38 TXC/TX CLK (in), 39 TXD 0 (in), 40 VDDIO (power), 41 EP (power)

## BFTC-XXXX+
designator F?  (value not drawn)
Band Pass RF Filter; Manufacturer: Mini-Circuits; Case Style: FV1206; Rejection (dB): 20; Impedance: 50Ω; Body Size: 3.2mm x 1.6mm; Technology: LTCC; ComponentLink1Description: Manufacturer; ComponentLink1URL: https://www.minicircuits.com/WebStore/RF-Filters.html; Supplier 1: Mouser; Supplier 2: Digi-Key; Supplier Part Number 1: 139-BFCN-1860; Supplier Part Number 2: 3157-BFCN-1860+CT-ND; ComponentLink2Description: Case Style; ComponentLink2URL: https://www.minicircuits.com/case_style/FV1206.pdf; ComponentLink3Description: Sugested Mounting Configuration; ComponentLink3URL: https://www.minicircuits.com/pcb/98-pl137.pdf
footprint Mini-Circuits_FV1206 (3.2 X 1.6 mm Ceramic Body, 0.94 mm Height)
pins: 1 Input, 2 GND, 3 Output

## DAC37J82
designator U?
Dual-Channel, 16-Bit, 1.6/2.5 GSPS, Digital-to-Analog Converter with 12.5 Gbps JESD204B Interface.; Resolution (Bits): 16; Number of DAC channels (#): 2; Sample/update rate (MSPS): 1600; Rating: Catalog; Interpolation: 16x, 1x, 2x, 4x, 8x; Power consumption (Typ) (mW): 789; SFDR (dB): 81; Architecture: Current Source; Reference type: Internal; Interface type: JESD204B; Operating temperature range (ºC): -40ºC to 85ºC; ComponentLink1Description: Manufacturer; ComponentLink1URL: https://www.ti.com/product/DAC37J82?utm_source=google&utm_medium=cpc&utm_campaign=asc-null-null-GPN_EN-cpc-pf-google-wwe&utm_content=DAC37J82&ds_k=DAC37J82&DCM=yes&gclid=Cj0KCQjwgYSTBhDKARIsAB8Kukuy5g6TyeX5f3mFZCn5sLi-sPSUjPmCm8keN_PwoqNiLrqoEt2qAw0aArvDEALw_wcB&gclsrc=aw.ds#pps; Supplier 1: Mouser; Supplier 2: Digi-Key; Supplier Part Number 1: 595-DAC37J82IAAV; Supplier Part Number 2: 296-43411-ND
footprint TEXAS_FCBGA144 (AAV)
part A pins: J3 TRSTB (in), K3 TESTMODE (out), K4 TCLK (in), K5 TXENABLE (in), K8 RESETB (in), L4 TMS (in), L5 TDI (in), L6 SYNC_N_AB (out), L7 SYNC_N_CD (out), L8 ALARM (out), L9 SCLK (in), L10 SDIO (io), M5 TDO (out), M6 NC, M7 NC, M8 SLEEP (in), M9 SDENB (in), M10 SDO (out)
part B pins: A1 RX6N (in), A2 RX7N (in), A3 RX7P (in), A6 SYSREFN (in), A7 SYSREFP (in), A9 DACCLKN (in), A10 DACCLKP (in), B1 RX6P (in), B6 SYNCBN (out), B7 SYNCBP (out), C1 RX5P (in), D1 RX5N (in), E1 RX4N (in), F1 RX4P (in), G1 RX0P (in), H1 RX0N (in), J1 RX1N (in), K1 RX1P (in), L1 RX2P (in), M1 RX2N (in), M2 RX3N (in), M3 RX3P (in)
part C pins: B12 IOUTAP (out), C4 VSENSE (io), C5 IFORCE (io), C9 LPF (io), C12 IOUTAN (out), D12 IOUTBN (out), E3 AMUX1 (io), E12 IOUTBP (out), F10 EXTIO (io), G10 RBIAS (out), H3 AMUX0 (io), H12 IOUTCP (out), J12 IOUTCN (out), K9 ATEST (io), K12 IOUTDN (out), L12 IOUTDP (out)
part D pins: A4 GND, A5 GND, A11 GND, A12 GND, B2 GND, B3 GND, B4 GND, B5 GND, B11 GND, C2 GND, C3 GND, C8 GND, C11 GND, D2 GND, D8 GND, D11 GND, E2 GND, E5 GND, E6 GND, E7 GND, E8 GND, E11 GND, F5 GND, F6 GND, F7 GND, F8 GND, F11 GND, F12 GND, G5 GND, G6 GND, G7 GND, G8 GND, G11 GND, G12 GND, H2 GND, H5 GND, H6 GND, H7 GND, H8 GND, H11 GND, J2 GND, J8 GND, J11 GND, K2 GND, K11 GND, L2 GND, L3 GND, L11 GND, M4 GND, M11 GND, M12 GND
part E pins: A8 VDDCLK09, B8 VDDCLK09, B9 VDDAPLL18, B10 VDDAPLL18, C6 VDDS18, C7 VDDS18, C10 VDDAREF18, D3 VDDDIG09, D4 VDDDIG09, D5 VDDDIG09, D6 VQPS18, D7 VQPS18, D9 VDDDAC09, D10 VDDDAC33, E4 VDDDIG09, E9 VDDDAC09, E10 VDDDAC33, F2 VDDR18, F3 VDDT09, F4 VDDDIG09, F9 VDDDAC09, G2 VDDR18, G3 VDDT09, G4 VDDDIG09, G9 VDDDAC09, H4 VDDDIG09, H9 VDDDAC09, H10 VDDDAC33, J4 VDDDIG09, J5 VDDDIG09, J6 VDDDIG09, J7 VDDDIG09, J9 VDDDAC09, J10 VDDDAC33, K6 VDDIO18, K7 VDDIO18, K10 VDDAREF18

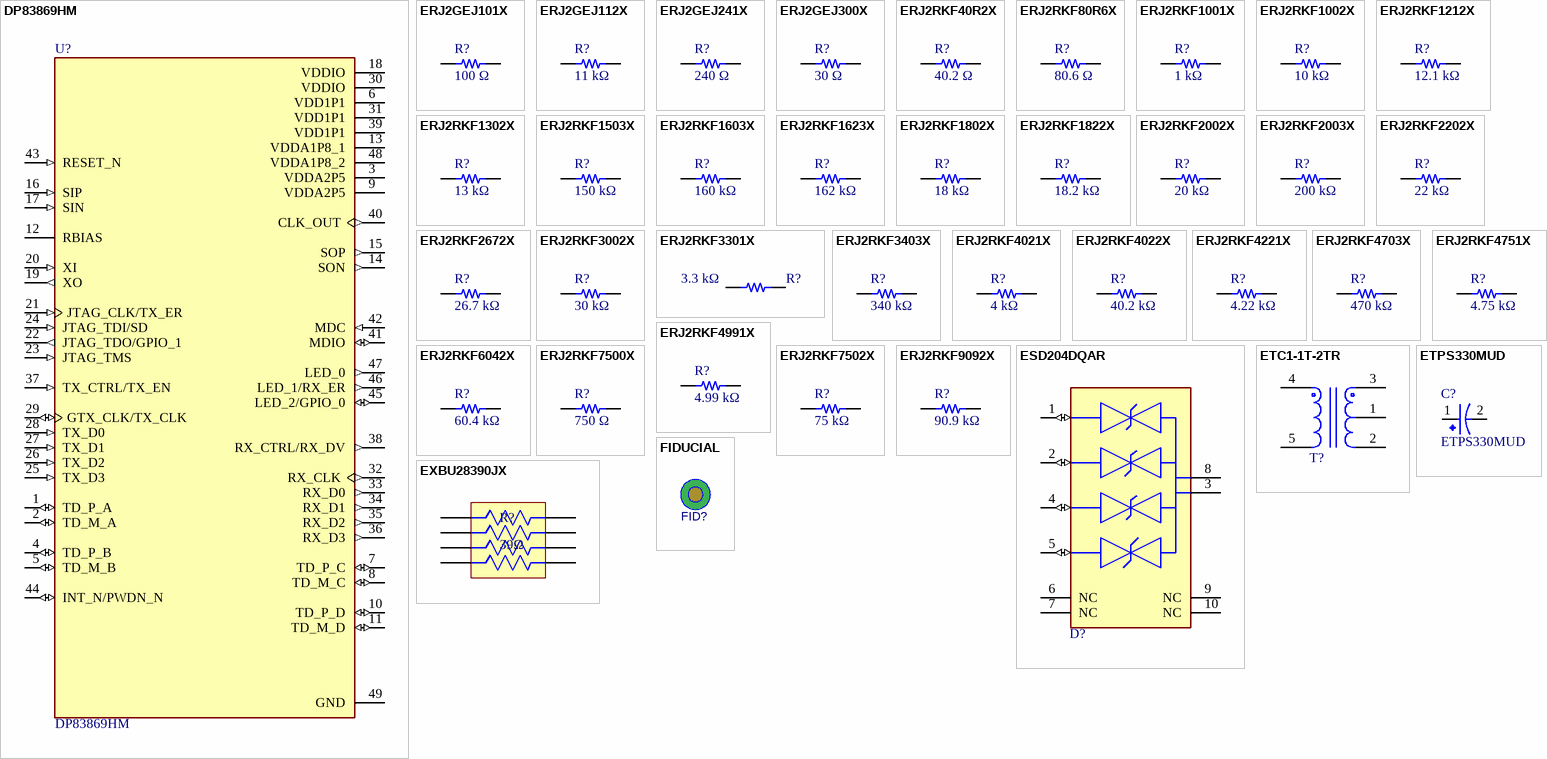
[diagram p2: symbols DP83869HM to FIDUCIAL]

## DP83869HM
designator U?
Gigabit Ethernet PHY transceiver with copper & fiber interface, Extended temperature, High-immunity; MF: Texas Instruments; Interface: SGMII, RGMII, MII; Datarate (Mbps): 10/100/1000; MP: DP83869HM; Package: VFQFN-48; Supplier 1: Digi-Key; Supplier 2: Mouser; Supplier Part Number 1: 296-DP83869HMRGZRTR-ND; Supplier Part Number 2: 595-DP83869HMRGZR; Features: JTAG1149.1
footprint TEXAS_VQFN48 (RGZ, 0.5mm pitch, 7x7mm body)
pins: 1 TD_P_A (io), 2 TD_M_A (io), 3 VDDA2P5 (power), 4 TD_P_B (io), 5 TD_M_B (io), 6 VDD1P1 (power), 7 TD_P_C (io), 8 TD_M_C (io), 9 VDDA2P5 (power), 10 TD_P_D (io), 11 TD_M_D (io), 12 RBIAS, 13 VDDA1P8_1 (power), 14 SON (out), 15 SOP (out), 16 SIP (in), 17 SIN (in), 18 VDDIO (power), 19 XO (out), 20 XI (in), 21 JTAG_CLK/TX_ER (in), 22 JTAG_TDO/GPIO_1 (out), 23 JTAG_TMS (in), 24 JTAG_TDI/SD (in), 25 TX_D3 (in), 26 TX_D2 (in), 27 TX_D1 (in), 28 TX_D0 (in), 29 GTX_CLK/TX_CLK (io), 30 VDDIO (power), 31 VDD1P1 (power), 32 RX_CLK (out), 33 RX_D0 (out), 34 RX_D1 (out), 35 RX_D2 (out), 36 RX_D3 (out), 37 TX_CTRL/TX_EN (in), 38 RX_CTRL/RX_DV (out), 39 VDD1P1 (power), 40 CLK_OUT (out), 41 MDIO (io), 42 MDC (in), 43 RESET_N (in), 44 INT_N/PWDN_N (io), 45 LED_2/GPIO_0 (io), 46 LED_1/RX_ER (out), 47 LED_0 (out), 48 VDDA1P8_2 (power), 49 GND (power)

## ERJ2GEJ101X
designator R?, comment 100 Ω
General Purpose Thick Film Chip Resistors; Manufacturer: Panasonic; Power (0402): 0.1 W; Limiting Voltage (0402): 50; Maximum Voltage (0402): 100; Resistance Range (Ω): 1Ω to 100MΩ; AEC 200: Grade 0; Size (0402): 2GE; ComponentLink1Description: Catalog; ComponentLink1URL: https://industrial.panasonic.com/ww/products/pt/general-purpose-chip-resistors/models?op=search&model_status_current=1&page=0#model-list-search-results; Series: ERJ; Temperature Range (ºC): -55 to +155; Supplier 1: Digi-Key; Supplier 2: Mouser; Supplier Part Number 2: 667-ERJ-2GEJ101X; Supplier Part Number 1: P100JTR-ND
footprint PANASONIC_ERJ2G_0402 (Chip Resistor, 2-Leads, Body 1,00x0,50mm, IPC Medium Density)
pins: 1, 2

## ERJ2GEJ112X
designator R?, comment 11 kΩ
General Purpose Thick Film Chip Resistors; Manufacturer: Panasonic; Power (0402): 0.1 W; Limiting Voltage (0402): 50; Maximum Voltage (0402): 100; Resistance Range (Ω): 1Ω to 100MΩ; AEC 200: Grade 0; Size (0402): 2GE; ComponentLink1Description: Catalog; ComponentLink1URL: https://industrial.panasonic.com/ww/products/pt/general-purpose-chip-resistors/models?op=search&model_status_current=1&page=0#model-list-search-results; Series: ERJ; Temperature Range (ºC): -55 to +155; Supplier 1: Newark; Supplier 2: Mouser; Supplier Part Number 2: 667-ERJ-2GEJ112X; Supplier Part Number 1: 53W4140
footprint PANASONIC_ERJ2G_0402 (Chip Resistor, 2-Leads, Body 1,00x0,50mm, IPC Medium Density)
pins: 1, 2

## ERJ2GEJ241X
designator R?, comment 240 Ω
General Purpose Thick Film Chip Resistors; Manufacturer: Panasonic; Power (0402): 0.1 W; Limiting Voltage (0402): 50; Maximum Voltage (0402): 100; Resistance Range (Ω): 1Ω to 100MΩ; AEC 200: Grade 0; Size (0402): 2GE; ComponentLink1Description: Catalog; ComponentLink1URL: https://industrial.panasonic.com/ww/products/pt/general-purpose-chip-resistors/models?op=search&model_status_current=1&page=0#model-list-search-results; Series: ERJ; Temperature Range (ºC): -55 to +155; Supplier 1: Newark; Supplier 2: Mouser; Supplier Part Number 1: 85Y7936; Supplier Part Number 2: 667-ERJ-2GEJ241X
footprint PANASONIC_ERJ2G_0402 (Chip Resistor, 2-Leads, Body 1,00x0,50mm, IPC Medium Density)
pins: 1, 2

## ERJ2GEJ300X
designator R?, comment 30 Ω
General Purpose Thick Film Chip Resistors; Manufacturer: Panasonic; Power (0402): 0.1 W; Limiting Voltage (0402): 50; Maximum Voltage (0402): 100; Resistance Range (Ω): 1Ω to 100MΩ; AEC 200: Grade 0; Size (0402): 2GE; ComponentLink1Description: Catalog; ComponentLink1URL: https://industrial.panasonic.com/ww/products/pt/general-purpose-chip-resistors/models?op=search&model_status_current=1&page=0#model-list-search-results; Series: ERJ; Temperature Range (ºC): -55 to +155; Supplier 1: Digi-Key; Supplier 2: Mouser; Supplier Part Number 1: P30JCT-ND; Supplier Part Number 2: 667-ERJ-2GEJ300X
footprint PANASONIC_ERJ2G_0402 (Chip Resistor, 2-Leads, Body 1,00x0,50mm, IPC Medium Density)
pins: 1, 2

## ERJ2RKF40R2X
designator R?, comment 40.2 Ω
General Purpose Thick Film Chip Resistors; Manufacturer: Panasonic; Power (0402): 0.1 W; Limiting Voltage (0402): 50; Maximum Voltage (0402): 100; Resistance Range (Ω): 1Ω to 100MΩ; AEC 200: Grade 0; Size (0402): 2GE; ComponentLink1Description: Catalog; ComponentLink1URL: https://industrial.panasonic.com/ww/products/pt/general-purpose-chip-resistors/models?op=search&model_status_current=1&page=0#model-list-search-results; Series: ERJ; Temperature Range (ºC): -55 to +155; Supplier 1: Newark; Supplier 2: Digi-Key; Supplier Part Number 1: 27AC5044; Supplier Part Number 2: P40.2LCT-ND
footprint PANASONIC_ERJ2G_0402 (Chip Resistor, 2-Leads, Body 1,00x0,50mm, IPC Medium Density)
pins: 1, 2

## ERJ2RKF80R6X
designator R?, comment 80.6 Ω
General Purpose Thick Film Chip Resistors; Manufacturer: Panasonic; Power (0402): 0.1 W; Limiting Voltage (0402): 50; Maximum Voltage (0402): 100; Resistance Range (Ω): 1Ω to 100MΩ; AEC 200: Grade 0; Size (0402): 2GE; ComponentLink1Description: Catalog; ComponentLink1URL: https://industrial.panasonic.com/ww/products/pt/general-purpose-chip-resistors/models?op=search&model_status_current=1&page=0#model-list-search-results; Series: ERJ; Temperature Range (ºC): -55 to +155; Supplier 1: Digi-Key; Supplier 2: Mouser; Supplier Part Number 1: P80.6LCT-ND; Supplier Part Number 2: 667-ERJ-2RKF80R6X
footprint PANASONIC_ERJ2G_0402 (Chip Resistor, 2-Leads, Body 1,00x0,50mm, IPC Medium Density)
pins: 1, 2

## ERJ2RKF1001X
designator R?, comment 1 kΩ
General Purpose Thick Film Chip Resistors; Manufacturer: Panasonic; Power (0402): 0.1 W; Limiting Voltage (0402): 50; Maximum Voltage (0402): 100; Resistance Range (Ω): 1Ω to 100MΩ; AEC 200: Grade 0; Size (0402): 2GE; ComponentLink1Description: Catalog; ComponentLink1URL: https://industrial.panasonic.com/ww/products/pt/general-purpose-chip-resistors/models?op=search&model_status_current=1&page=0#model-list-search-results; Series: ERJ; Temperature Range (ºC): -55 to +155; Supplier 1: Digi-Key; Supplier Part Number 1: P1.00KLCT-ND
footprint PANASONIC_ERJ2G_0402 (Chip Resistor, 2-Leads, Body 1,00x0,50mm, IPC Medium Density)
pins: 1, 2

## ERJ2RKF1002X
designator R?, comment 10 kΩ
General Purpose Thick Film Chip Resistors; Manufacturer: Panasonic; Power (0402): 0.1 W; Limiting Voltage (0402): 50; Maximum Voltage (0402): 100; Resistance Range (Ω): 1Ω to 100MΩ; AEC 200: Grade 0; Size (0402): 2GE; ComponentLink1Description: Catalog; ComponentLink1URL: https://industrial.panasonic.com/ww/products/pt/general-purpose-chip-resistors/models?op=search&model_status_current=1&page=0#model-list-search-results; Series: ERJ; Temperature Range (ºC): -55 to +155; Supplier 1: Digi-Key; Supplier 2: Mouser; Supplier Part Number 1: P10.0KLCT-ND; Supplier Part Number 2: 667-ERJ-2RKF1002X
footprint PANASONIC_ERJ2G_0402 (Chip Resistor, 2-Leads, Body 1,00x0,50mm, IPC Medium Density)
pins: 1, 2

## ERJ2RKF1212X
designator R?, comment 12.1 kΩ
General Purpose Thick Film Chip Resistors; Manufacturer: Panasonic; Power (0402): 0.1 W; Limiting Voltage (0402): 50; Maximum Voltage (0402): 100; Resistance Range (Ω): 1Ω to 100MΩ; AEC 200: Grade 0; Size (0402): 2GE; ComponentLink1Description: Catalog; ComponentLink1URL: https://industrial.panasonic.com/ww/products/pt/general-purpose-chip-resistors/models?op=search&model_status_current=1&page=0#model-list-search-results; Series: ERJ; Temperature Range (ºC): -55 to +155; Supplier 1: Digi-Key; Supplier Part Number 1: P12.1KLCT-ND
footprint PANASONIC_ERJ2G_0402 (Chip Resistor, 2-Leads, Body 1,00x0,50mm, IPC Medium Density)
pins: 1, 2

## ERJ2RKF1302X
designator R?, comment 13 kΩ
General Purpose Thick Film Chip Resistors; Manufacturer: Panasonic; Power (0402): 0.1 W; Limiting Voltage (0402): 50; Maximum Voltage (0402): 100; Resistance Range (Ω): 1Ω to 100MΩ; AEC 200: Grade 0; Size (0402): 2GE; ComponentLink1Description: Catalog; ComponentLink1URL: https://industrial.panasonic.com/ww/products/pt/general-purpose-chip-resistors/models?op=search&model_status_current=1&page=0#model-list-search-results; Series: ERJ; Temperature Range (ºC): -55 to +155; Supplier 1: Digi-Key; Supplier Part Number 1: P13.0KLCT-ND
footprint PANASONIC_ERJ2G_0402 (Chip Resistor, 2-Leads, Body 1,00x0,50mm, IPC Medium Density)
pins: 1, 2

## ERJ2RKF1503X
designator R?, comment 150 kΩ
General Purpose Thick Film Chip Resistors; Manufacturer: Panasonic; Power (0402): 0.1 W; Limiting Voltage (0402): 50; Maximum Voltage (0402): 100; Resistance Range (Ω): 1Ω to 100MΩ; AEC 200: Grade 0; Size (0402): 2GE; ComponentLink1Description: Catalog; ComponentLink1URL: https://industrial.panasonic.com/ww/products/pt/general-purpose-chip-resistors/models?op=search&model_status_current=1&page=0#model-list-search-results; Series: ERJ; Temperature Range (ºC): -55 to +155; Supplier 1: Digi-Key; Supplier Part Number 1: P150KLCT-ND
footprint PANASONIC_ERJ2G_0402 (Chip Resistor, 2-Leads, Body 1,00x0,50mm, IPC Medium Density)
pins: 1, 2

## ERJ2RKF1603X
designator R?, comment 160 kΩ
General Purpose Thick Film Chip Resistors; Manufacturer: Panasonic; Power (0402): 0.1 W; Limiting Voltage (0402): 50; Maximum Voltage (0402): 100; Resistance Range (Ω): 1Ω to 100MΩ; AEC 200: Grade 0; Size (0402): 2GE; ComponentLink1Description: Catalog; ComponentLink1URL: https://industrial.panasonic.com/ww/products/pt/general-purpose-chip-resistors/models?op=search&model_status_current=1&page=0#model-list-search-results; Series: ERJ; Temperature Range (ºC): -55 to +155; Supplier 1: Digi-Key; Supplier Part Number 1: P160KLCT-ND
footprint PANASONIC_ERJ2G_0402 (Chip Resistor, 2-Leads, Body 1,00x0,50mm, IPC Medium Density)
pins: 1, 2

## ERJ2RKF1623X
designator R?, comment 162 kΩ
General Purpose Thick Film Chip Resistors; Manufacturer: Panasonic; Power (0402): 0.1 W; Limiting Voltage (0402): 50; Maximum Voltage (0402): 100; Resistance Range (Ω): 1Ω to 100MΩ; AEC 200: Grade 0; Size (0402): 2GE; ComponentLink1Description: Catalog; ComponentLink1URL: https://industrial.panasonic.com/ww/products/pt/general-purpose-chip-resistors/models?op=search&model_status_current=1&page=0#model-list-search-results; Series: ERJ; Temperature Range (ºC): -55 to +155; Supplier 1: Mouser; Supplier Part Number 1: 667-ERJ-2RKF1623X
footprint PANASONIC_ERJ2G_0402 (Chip Resistor, 2-Leads, Body 1,00x0,50mm, IPC Medium Density)
pins: 1, 2

## ERJ2RKF1802X
designator R?, comment 18 kΩ
General Purpose Thick Film Chip Resistors; Manufacturer: Panasonic; Power (0402): 0.1 W; Limiting Voltage (0402): 50; Maximum Voltage (0402): 100; Resistance Range (Ω): 1Ω to 100MΩ; AEC 200: Grade 0; Size (0402): 2GE; ComponentLink1Description: Catalog; ComponentLink1URL: https://industrial.panasonic.com/ww/products/pt/general-purpose-chip-resistors/models?op=search&model_status_current=1&page=0#model-list-search-results; Series: ERJ; Temperature Range (ºC): -55 to +155; Supplier 1: Digi-Key; Supplier 2: Mouser; Supplier Part Number 1: P18.0KLCT-ND; Supplier Part Number 2: 667-ERJ-2RKF1802X
footprint PANASONIC_ERJ2G_0402 (Chip Resistor, 2-Leads, Body 1,00x0,50mm, IPC Medium Density)
pins: 1, 2

## ERJ2RKF1822X
designator R?, comment 18.2 kΩ
General Purpose Thick Film Chip Resistors; Manufacturer: Panasonic; Power (0402): 0.1 W; Limiting Voltage (0402): 50; Maximum Voltage (0402): 100; Resistance Range (Ω): 1Ω to 100MΩ; AEC 200: Grade 0; Size (0402): 2GE; ComponentLink1Description: Catalog; ComponentLink1URL: https://industrial.panasonic.com/ww/products/pt/general-purpose-chip-resistors/models?op=search&model_status_current=1&page=0#model-list-search-results; Series: ERJ; Temperature Range (ºC): -55 to +155; Supplier 1: Mouser; Supplier Part Number 1: 667-ERJ-2RKF1822X
footprint PANASONIC_ERJ2G_0402 (Chip Resistor, 2-Leads, Body 1,00x0,50mm, IPC Medium Density)
pins: 1, 2

## ERJ2RKF2002X
designator R?, comment 20 kΩ
General Purpose Thick Film Chip Resistors; Manufacturer: Panasonic; Power (0402): 0.1 W; Limiting Voltage (0402): 50; Maximum Voltage (0402): 100; Resistance Range (Ω): 1Ω to 100MΩ; AEC 200: Grade 0; Size (0402): 2GE; ComponentLink1Description: Catalog; ComponentLink1URL: https://industrial.panasonic.com/ww/products/pt/general-purpose-chip-resistors/models?op=search&model_status_current=1&page=0#model-list-search-results; Series: ERJ; Temperature Range (ºC): -55 to +155; Supplier 1: Digi-Key; Supplier Part Number 1: P20.0KLCT-ND
footprint PANASONIC_ERJ2G_0402 (Chip Resistor, 2-Leads, Body 1,00x0,50mm, IPC Medium Density)
pins: 1, 2

## ERJ2RKF2003X
designator R?, comment 200 kΩ
General Purpose Thick Film Chip Resistors; Manufacturer: Panasonic; Power (0402): 0.1 W; Limiting Voltage (0402): 50; Maximum Voltage (0402): 100; Resistance Range (Ω): 1Ω to 100MΩ; AEC 200: Grade 0; Size (0402): 2GE; ComponentLink1Description: Catalog; ComponentLink1URL: https://industrial.panasonic.com/ww/products/pt/general-purpose-chip-resistors/models?op=search&model_status_current=1&page=0#model-list-search-results; Series: ERJ; Temperature Range (ºC): -55 to +155; Supplier 1: Digi-Key; Supplier Part Number 1: P200KLCT-ND
footprint PANASONIC_ERJ2G_0402 (Chip Resistor, 2-Leads, Body 1,00x0,50mm, IPC Medium Density)
pins: 1, 2

## ERJ2RKF2202X
designator R?, comment 22 kΩ
General Purpose Thick Film Chip Resistors; Manufacturer: Panasonic; Power (0402): 0.1 W; Limiting Voltage (0402): 50; Maximum Voltage (0402): 100; Resistance Range (Ω): 1Ω to 100MΩ; AEC 200: Grade 0; Size (0402): 2GE; ComponentLink1Description: Catalog; ComponentLink1URL: https://industrial.panasonic.com/ww/products/pt/general-purpose-chip-resistors/models?op=search&model_status_current=1&page=0#model-list-search-results; Series: ERJ; Temperature Range (ºC): -55 to +155; Supplier 1: Digi-Key; Supplier 2: Digi-Key; Supplier Part Number 2: P22.0KLDKR-ND; Supplier Part Number 1: P22.0KLCT-ND
footprint PANASONIC_ERJ2G_0402 (Chip Resistor, 2-Leads, Body 1,00x0,50mm, IPC Medium Density)
pins: 1, 2

## ERJ2RKF2672X
designator R?, comment 26.7 kΩ
General Purpose Thick Film Chip Resistors; Manufacturer: Panasonic; Power (0402): 0.1 W; Limiting Voltage (0402): 50; Maximum Voltage (0402): 100; Resistance Range (Ω): 1Ω to 100MΩ; AEC 200: Grade 0; Size (0402): 2GE; ComponentLink1Description: Catalog; ComponentLink1URL: https://industrial.panasonic.com/ww/products/pt/general-purpose-chip-resistors/models?op=search&model_status_current=1&page=0#model-list-search-results; Series: ERJ; Temperature Range (ºC): -55 to +155; Supplier 1: Digi-Key; Supplier Part Number 1: P26.7KLCT-ND
footprint PANASONIC_ERJ2G_0402 (Chip Resistor, 2-Leads, Body 1,00x0,50mm, IPC Medium Density)
pins: 1, 2

## ERJ2RKF3002X
designator R?, comment 30 kΩ
General Purpose Thick Film Chip Resistors; Manufacturer: Panasonic; Power (0402): 0.1 W; Limiting Voltage (0402): 50; Maximum Voltage (0402): 100; Resistance Range (Ω): 1Ω to 100MΩ; AEC 200: Grade 0; Size (0402): 2GE; ComponentLink1Description: Catalog; ComponentLink1URL: https://industrial.panasonic.com/ww/products/pt/general-purpose-chip-resistors/models?op=search&model_status_current=1&page=0#model-list-search-results; Series: ERJ; Temperature Range (ºC): -55 to +155; Supplier 1: Digi-Key; Supplier Part Number 1: P30.0KLCT-ND
footprint PANASONIC_ERJ2G_0402 (Chip Resistor, 2-Leads, Body 1,00x0,50mm, IPC Medium Density)
pins: 1, 2

## ERJ2RKF3301X
designator R?, comment 3.3 kΩ
General Purpose Thick Film Chip Resistors; Manufacturer: Panasonic; Power (0402): 0.1 W; Limiting Voltage (0402): 50; Maximum Voltage (0402): 100; Resistance Range (Ω): 1Ω to 100MΩ; AEC 200: Grade 0; Size (0402): 2GE; ComponentLink1Description: Catalog; ComponentLink1URL: https://industrial.panasonic.com/ww/products/pt/general-purpose-chip-resistors/models?op=search&model_status_current=1&page=0#model-list-search-results; Series: ERJ; Temperature Range (ºC): -55 to +155; Supplier 1: RSComponents; Supplier 2: Digi-Key; Supplier 3: Mouser; Supplier Part Number 1: 7325448; Supplier Part Number 2: P3.30KLCT-ND; Supplier Part Number 3: 667-ERJ-2RKF3301X
footprint PANASONIC_ERJ2G_0402 (Chip Resistor, 2-Leads, Body 1,00x0,50mm, IPC Medium Density)
pins: 1, 2

## ERJ2RKF3403X
designator R?, comment 340 kΩ
General Purpose Thick Film Chip Resistors; Manufacturer: Panasonic; Power (0402): 0.1 W; Limiting Voltage (0402): 50; Maximum Voltage (0402): 100; Resistance Range (Ω): 1Ω to 100MΩ; AEC 200: Grade 0; Size (0402): 2GE; ComponentLink1Description: Catalog; ComponentLink1URL: https://industrial.panasonic.com/ww/products/pt/general-purpose-chip-resistors/models?op=search&model_status_current=1&page=0#model-list-search-results; Series: ERJ; Temperature Range (ºC): -55 to +155; Supplier 1: Digi-Key; Supplier Part Number 1: P340KLCT-ND
footprint PANASONIC_ERJ2G_0402 (Chip Resistor, 2-Leads, Body 1,00x0,50mm, IPC Medium Density)
pins: 1, 2

## ERJ2RKF4021X
designator R?, comment 4 kΩ
General Purpose Thick Film Chip Resistors; Manufacturer: Panasonic; Power (0402): 0.1 W; Limiting Voltage (0402): 50; Maximum Voltage (0402): 100; Resistance Range (Ω): 1Ω to 100MΩ; AEC 200: Grade 0; Size (0402): 2GE; ComponentLink1Description: Catalog; ComponentLink1URL: https://industrial.panasonic.com/ww/products/pt/general-purpose-chip-resistors/models?op=search&model_status_current=1&page=0#model-list-search-results; Series: ERJ; Temperature Range (ºC): -55 to +155; Supplier 1: Digi-Key; Supplier 2: Digi-Key; Supplier Part Number 2: P4.02KLDKR-ND; Supplier Part Number 1: P4.02KLCT-ND
footprint PANASONIC_ERJ2G_0402 (Chip Resistor, 2-Leads, Body 1,00x0,50mm, IPC Medium Density)
pins: 1, 2